# EAGLE library part 1725698 (library Connectors-Phoenix Contact)
6 way PCB vertical mount terminal,2.54mm 6 way PCB vertical mount terminal,2.54mm Source: Datasheet <http://docs-emea.rs-online.com/webdocs/0363/0900766b80363ff3.pdf>
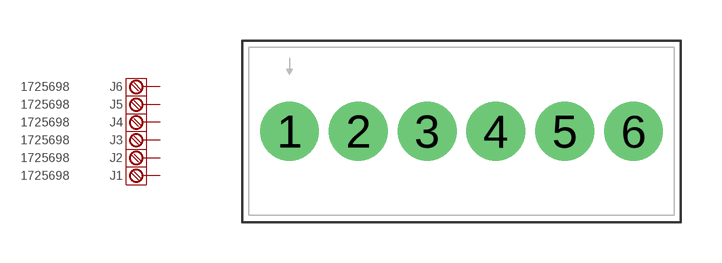
[diagram p0: symbol with the pads of SHDR6W90P0X254_1X6_1570X620X85; footprint SHDR6W90P0X254_1X6_1570X620X85]

Designator prefix J; gates 6=TB-PIN-1 5=TB-PIN-1 4=TB-PIN-1 3=TB-PIN-1 2=TB-PIN-1 1=TB-PIN-1

## 1725698 (DATASHEET: https://media.digikey.com/pdf/Data%20Sheets/Phoenix%20Contact%20PDFs/1725698.pdf; DESCRIPTION: 6 Position Wire to Board Terminal Block Horizontal with Board 0.100" (2.54mm) Through Hole; LINK: https://www.phoenixcontact.com/en-in/products/printed-circuit-board-terminal-mpt-05-6-254-1725698#technical-data-link-target; MANUFACTURER: Phoenix Contact; MPU: 1725698; PACKAGE: Value)  [SHDR6W90P0X254_1X6_1570X620X85]
1  1:1  pas
2  2:1  pas
3  3:1  pas
4  4:1  pas
5  5:1  pas
6  6:1  pas

## Footprint SHDR6W90P0X254_1X6_1570X620X85 (pad centres in mm)
1725698
drill 1.45 pad 2.175: 1 0,0; 2 2.54,0; 3 5.08,0; 4 7.62,0; 5 10.16,0; 6 12.7,0